# Altium schematic symbol library Schlib.SchLib: 16 symbols
Pins are listed as number, name and electrical type; pins without a type are passive.

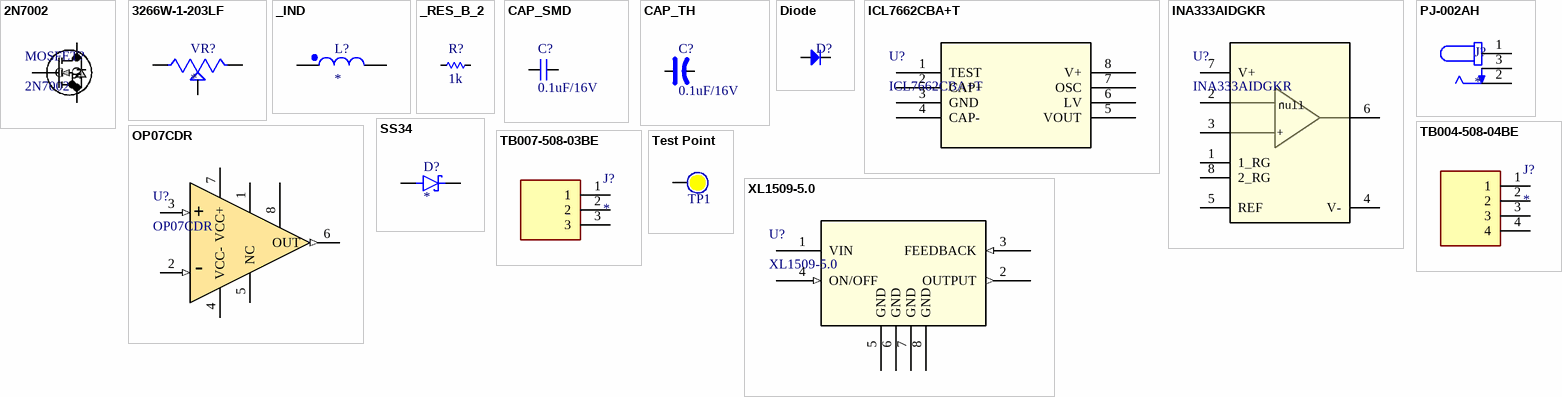
[diagram p0: symbols 2N7002 to XL1509-5.0]

## 2N7002
designator MOSFET?
Description; Manufacturer_Name: onsemi; Copyright: Copyright (C) 2025 Ultra Librarian. All rights reserved.; Manufacturer_Part_Number: 2N7002
footprint SOT-23TO-236_318-08_ONS
pins: 1 G, 2 S, 3 D

## 3266W-1-203LF
designator VR?
20 kOhms 0.25W, 1/4W PC Pins Through Hole Trimmer Potentiometer Cermet 12 Turn Top Adjustment; MF: Bourns; MP: 3266W-1-203LF; Price: None; Check_prices: https://www.snapeda.com/parts/3266W-1-203LF/Bourns/view-part/427237/?ref=eda; Value: *; Package: TO-218 Bourns; SnapEDA_Link: https://www.snapeda.com/parts/3266W-1-203LF/Bourns/view-part/427237/?ref=snap; Availability: Warning; Purchase-URL: https://pricing.snapeda.com/search/part/3266W-1-203LF/?ref=eda
footprint TRIM_3266W-1-203LF
pins: 1 CCW, 2 WIPER, 3 CW

## _IND
designator L?
footprint IND730660x480 (Precision Wire Wound Inductor, 2-Leads, Body 7.30x6.60mm, IPC Medium Density)
footprint IND_C_2012X65 (Chip Inductor, 2-Leads, Body 2.00x1.25mm, IPC High Density)
pins: 1, 2

## _RES_B_2
designator R?, comment 1k
RES
footprint RES_C_1608X60 (Chip Resistor, 2-Leads, Body 1.63x0.83mm, IPC High Density)
footprint RES_C_2012X65 (Chip Resistor, 2-Leads, Body 2.00x1.25mm, IPC High Density)
pins: 1, 2

## CAP_SMD
designator C?, comment 0.1uF/16V
CAP_Chip; Value: 33pF
footprint CAP_C_1608X80 (Chip Capacitor, 2-Leads, Body 1.60x0.80mm, IPC Medium Density)
footprint CAP_C_2012X110 (Chip Capacitor, 2-Leads, Body 2.00x1.25mm, IPC High Density)
pins: 1, 2

## CAP_TH
designator C?, comment 0.1uF/16V
CAP_Polarization; Published: 8-Jun-2000; LatestRevisionDate: 17-Jul-2002; LatestRevisionNote: Re-released for DXP Platform.; PackageReference: POLAR0.8; Publisher: Altium Limited
footprint CAP_MP_1608X90 (Molded Capacitor, 2-Leads, Body 1.60x0.85mm, IPC Medium Density)
footprint CAP_MP_2012X170 (Molded Capacitor, 2-Leads, Body 2.05x1.40mm, IPC Medium Density)
pins: 1, 2
1 alternate drawing of the same symbol

## Diode
designator D?  (value not drawn)
Default Diode; Code - JEDEC: DO-214-AB; Value: 1N5007; Published: 8-Jun-2000; Revision: July-2002: Re-released for DXP Platform.; Publisher: Altium Limited
footprint DO-214AA_SMB_M (Molded Diode, 2-Leads, Body 5.40x3.63mm, IPC Medium Density)
pins: 1 A, 2 K

## ICL7662CBA+T
designator U?
CMOS Voltage Converters; Manufacturer_Name: Analog Devices / Maxim Integrated; Copyright: Copyright (C) 2025 Ultra Librarian. All rights reserved.; Manufacturer_Part_Number: ICL7662CBA+T; RefDes: RefDes; Type: Type
footprint 21-0041B_8_MXM
pins: 1 TEST, 2 CAP+, 3 GND (power), 4 CAP-, 5 VOUT, 6 LV, 7 OSC, 8 V+ (power)

## INA333AIDGKR
designator U?
Low-Power, Zero-Drift, Precision Instrumentation Amplifier 8-VSSOP -40 to 125; Manufacturer_Name: Texas Instruments; TYPE: TYPE; RefDes: RefDes; Copyright: Copyright (C) 2025 Ultra Librarian. All rights reserved.; Manufacturer_Part_Number: INA333AIDGKR
footprint DGK0008A-MFG
pins: 1 1_RG, 2 VIN- (hiz), 3 VIN+ (hiz), 4 V- (power), 5 REF, 6 VOUT, 7 V+ (power), 8 2_RG
text: null; -; +

## OP07CDR
designator U?
Low-offset voltage, single operational amplifier with external input offset voltage adjustment 8-SOIC 0 to 70; Manufacturer_Name: Texas Instruments; Copyright: Copyright (C) 2025 Ultra Librarian. All rights reserved.; Manufacturer_Part_Number: OP07CDR; RefDes: RefDes; Type: Type
footprint D8
pins: 1 OFFSETN1, 2 IN- (in), 3 IN+ (in), 4 VCC- (power), 5 NC, 6 OUT (out), 7 VCC+ (power), 8 OFFSETN2
text: +; -

## PJ-002AH
designator J?
2.0 x 6.5 mm, 5.0 A, Horizontal, Through Hole, Dc Power Jack Connector; MF: Same Sky; MP: PJ-002AH; SnapEDA_Link: https://www.snapeda.com/parts/PJ-002AH/Same+Sky/view-part/?ref=snap; Package: None; Value: *; Check_prices: https://www.snapeda.com/parts/PJ-002AH/Same+Sky/view-part/?ref=eda
footprint CUI_PJ-002AH
pins: 1, 2, 3

## SS34
designator D?
Diode Schottky 40 V 3A Surface Mount SMC (DO-214AB); MF: onsemi; MP: SS34; SnapEDA_Link: https://www.snapeda.com/parts/SS34/Onsemi/view-part/?ref=snap; Package: SMC-2 ON Semiconductor; Value: *; Check_prices: https://www.snapeda.com/parts/SS34/Onsemi/view-part/?ref=eda
footprint DIOM7959X265N
pins: A, C K

## TB004-508-04BE
designator J?
2~24 Poles, Screw Type, Horizontal, 5.08 Pitch, 24~12 (AWG), Terminal Block Connector; MF: Same Sky; MP: TB004-508-04BE; SnapEDA_Link: https://www.snapeda.com/parts/TB004-508-04BE/Same+Sky/view-part/?ref=snap; Package: None; Value: *; Check_prices: https://www.snapeda.com/parts/TB004-508-04BE/Same+Sky/view-part/?ref=eda
footprint CUI_TB004-508-04BE
pins: 1, 2, 3, 4

## TB007-508-03BE
designator J?
2~24 Poles, Screw Type, Horizontal, 5.08 Pitch, 24~12 (AWG), Terminal Block Connector; MF: Same Sky; MP: TB007-508-03BE; SnapEDA_Link: https://www.snapeda.com/parts/TB007-508-03BE/Same+Sky/view-part/?ref=snap; Package: None; Value: *; Check_prices: https://www.snapeda.com/parts/TB007-508-03BE/Same+Sky/view-part/?ref=eda
footprint CUI_TB007-508-03BE
pins: 1, 2, 3

## Test Point
designator TP1  (no BOM)
Test Point; Solder: NF
footprint Testpoint_60
pins: 0

## XL1509-5.0
designator U?
Description; Manufacturer_Name: UMW(Youtai Semiconductor Co., Ltd.); Copyright: Copyright (C) 2025 Ultra Librarian. All rights reserved.; Manufacturer_Part_Number: XL1509-5.0; RefDes: RefDes; Type: Type
footprint SOP8SOIC-8_UMW
pins: 1 VIN (power), 2 OUTPUT (out), 3 FEEDBACK (in), 4 ON/OFF (in), 5 GND (power), 6 GND (power), 7 GND (power), 8 GND (power)